# Altium schematic symbol library Diode.SchLib: 23 symbols
Pins are listed as number, name and electrical type; pins without a type are passive.

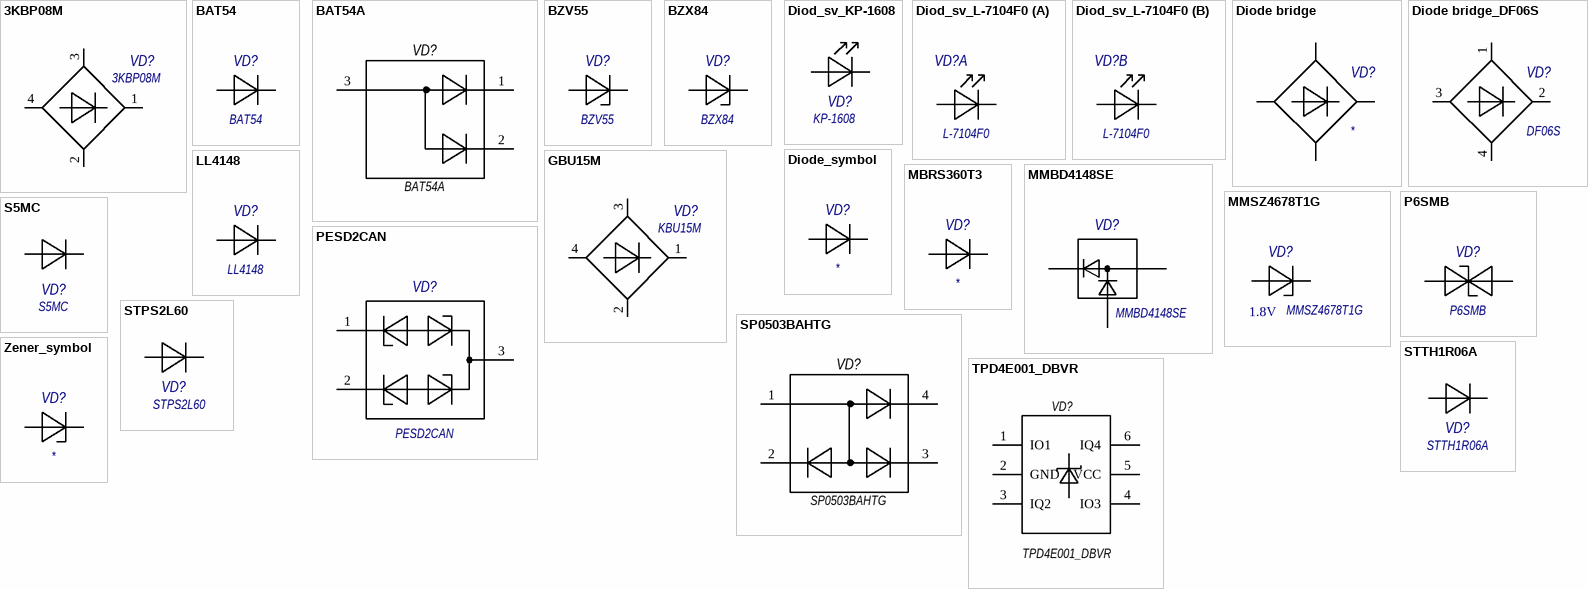
[diagram p0: symbols 3KBP08M to Zener_symbol]

## 3KBP08M
designator VD?  Type: 3KBP08M  (hidden comment: *)
footprint KBPM (Diode Bridge)
pins: 1, 2, 3, 4

## BAT54
designator VD?  (value not drawn)
BAT54; Type: BAT54
footprint SOT-23
pins: 1 A, 3 K

## BAT54A
designator VD?  Type: BAT54A  (hidden comment: *)
footprint SOT-23
pins: 1, 2, 3

## BZV55
designator VD?  Type: BZV55  (hidden comment: *)
Zener
footprint Minimelf
footprint SMC
pins: A, K

## BZX84
designator VD?  (value not drawn)
BZX84; Type: BZX84
footprint SOT-23
pins: 1 A, 3 K

## Diod_sv_KP-1608
designator VD?  Type: KP-1608  (hidden comment: *)
footprint KR-1608 (Molded Diode, 2-Leads, Body 1,6x0,8mm, IPC Medium Density)
pins: 1 A, 2 K

## Diod_sv_L-7104F0
designator VD?  Type: L-7104F0  (hidden comment: *)
footprint L-7104
part A pins: 1 A1, 2 K1
part B pins: 3 A2, 4 K2

## Diode bridge
designator VD?
Type: *
pins: 1, 2, 3, 4

## Diode bridge_DF06S
designator VD?  Type: DF06S  (hidden comment: *)
footprint DFS
pins: 1, 2, 3, 4

## Diode_symbol
designator VD?
Type: *
pins: A, K

## GBU15M
designator VD?  Type: KBU15M  (hidden comment: *)
footprint GBU
pins: 1, 2, 3, 4

## LL4148
designator VD?
Type: LL4148
footprint DIOMELF (MELF Diode, 2-Leads, Body 3,45x1,40mm, IPC Medium Density)
pins: A, K

## MBRS360T3
designator VD?
Type: *
footprint SMC/DO-214AB
pins: A, K

## MMBD4148SE
designator VD?  Type: MMBD4148SE  (hidden comment: *)
footprint SOT-23
pins: 1, 2, 3

## MMSZ4678T1G
designator VD?  Type: MMSZ4678T1G  Vz: 1.8V  (hidden comment: *)
footprint SOD-123 (CASE 425)
pins: A, K

## P6SMB
designator VD?  (value not drawn)
P6SMB; Type: P6SMB
footprint SMB/DO-214AA
pins: A, K

## PESD2CAN
designator VD?  Type: PESD2CAN  (hidden comment: *)
footprint SOT-23
pins: 1, 2, 3

## S5MC
designator VD?  Type: S5MC  (hidden comment: *)
footprint SMC/DO-214AB
pins: A, K

## SP0503BAHTG
designator VD?  Type: SP0503BAHTG  (hidden comment: *)
footprint SOT-143
pins: 1, 2, 3, 4

## STPS2L60
designator VD?  Type: STPS2L60  (hidden comment: *)
footprint SMA/DO-214AC
pins: A, K

## STTH1R06A
designator VD?  (value not drawn)
footprint SMA/DO-214AC
pins: A, K

## TPD4E001_DBVR
designator VD?  Type: TPD4E001_DBVR
footprint SOT-23-6
pins: 1 IO1, 2 GND, 3 IQ2, 4 IO3, 5 VCC, 6 IQ4

## Zener_symbol
designator VD?
Type: *
pins: A, K